# EAGLE library part PRESSURE_SENSOR_BREAKOUT (library YonderDeep)
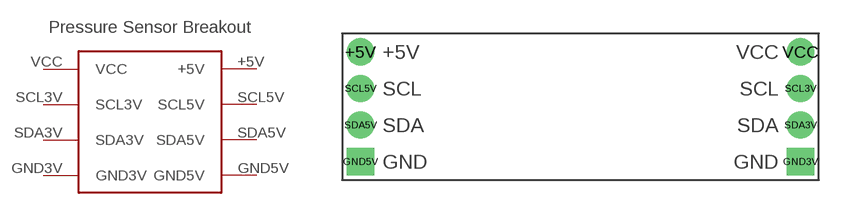
[diagram p2: symbol with the pads of BLUEROBOTICS_I2C_LVL_SHFT; footprint BLUEROBOTICS_I2C_LVL_SHFT]

Designator prefix -

## PRESSURE_SENSOR_BREAKOUT  [BLUEROBOTICS_I2C_LVL_SHFT]
+5V  +5V
GND3V  GND3V
GND5V  GND5V
SCL3V  SCL3V
SCL5V  SCL5V
SDA3V  SDA3V
SDA5V  SDA5V
VCC  VCC

## Footprint BLUEROBOTICS_I2C_LVL_SHFT (pad centres in mm)
Plated Through Hole - 4 Pin Specifications: Pin count:4 Pin pitch:0.1" Example device(s): CONN_04
drill 1.016 pad 1.88: +5V 0,3.81; SCL3V 30.48,1.27; SCL5V 0,1.27; SDA3V 30.48,-1.27; SDA5V 0,-1.27; VCC 30.48,3.81
drill 1.016 pad 1.88 square: GND3V 30.48,-3.81; GND5V 0,-3.81